# Altium footprint library Single_Pad_Pcb.PcbLib: 2 footprints
Each footprint in its own frame and in the unit in brackets; x right, y up, seen from the top. Pads: shape width x height; smd on the part's side, far side on the other; paste and mask are expansions set on the pad; w line width, h text height; cw(c..) or ccw(c..) is an arc to the next point about the centre after c.
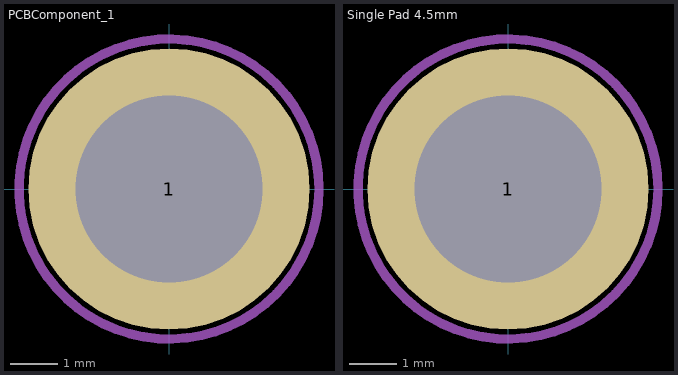
[diagram p0: the footprints below, top view; thin cyan lines are the x and y axes]

## PCBComponent_1 [mm]
pads (1):
  round 6 hole 4 paste+0 mask+0.1: 1(0,0)
Mechanical 13:
  circle w0.2: c0,0 r3.2
  text "'.Designator'" at -3.146,-5.446 h1.5

## Single Pad 4.5mm [mm]
pads (1):
  round 6 hole 4 paste+0 mask+0.1: 1(0,0)
Mechanical 13:
  circle w0.2: c0,0 r3.2
  text "'.designator'" at -1.9,-1.512 h1